# EAGLE library part DUE_HALF_SHIELD_A7-ANALOG (library Felicia_force_logger)
Arduino Due shield Matches Uno R3 footprint, but adds Due SPI 2x3 header, debug wire 4-pin header, and adds Analog pins A6 and A7. **NOTE**The 5V pin on the Due SPI 2x3 header outputs 5V, rather than the 3V3 you might expect.
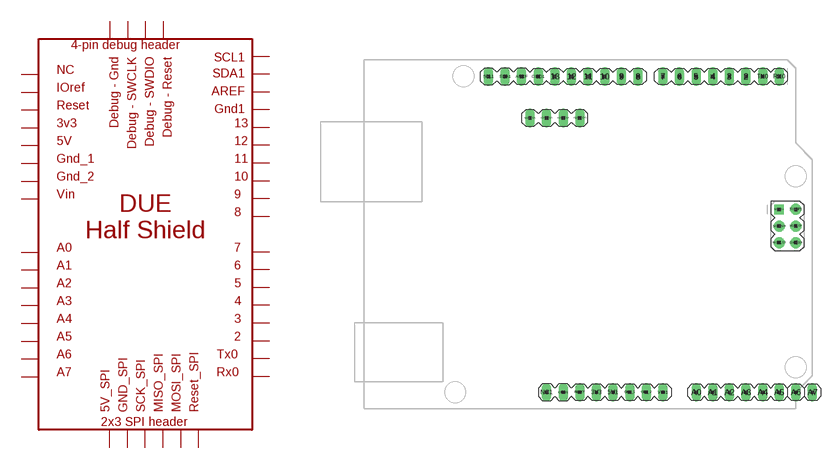
[diagram p11: symbol with the pads of DUE_HALF_SHIELD_A7-ANALOG; footprint DUE_HALF_SHIELD_A7-ANALOG]

Designator prefix -

## DUE_HALF_SHIELD_A7-ANALOG  [DUE_HALF_SHIELD_A7-ANALOG]
2  2
3  3
3V3  3V3
4  4
5  5
5V1  5V
5V_SPI  5V_SPI
6  6
7  7
8  8
9  9
10  10
11  11
12  12
13  13
A0  A0
A1  A1
A2  A2
A3  A3
A4  A4
A5  A5
A6  A6
A7  A7
AREF  AREF
GND1  GND1
GND_1  GND_1
GND_2  GND_2
GND_DEBUG  GND_DEBUG
GND_SPI  GND_SPI
IOREF1  IOREF
MISO_SPI  MISO_SPI
MOSI_SPI  MOSI_SPI
NC1  NC
RESET  RESET
RESET_DEBUG  RESET_DEBUG
RESET_SPI  RESET_SPI
RX0  RX0
SCK_SPI  SCK_SPI
SCL1  SCL1
SDA1  SDA1
SWCLK_DEBUG  SWCLK_DEBUG
SWDIO_DEBUG  SWDIO_DEBUG
TX0  TX0
VIN1  VIN

## Footprint DUE_HALF_SHIELD_A7-ANALOG (pad centres in mm)
Arduino Due shield Matches Uno R3 footprint, but adds Due SPI 2x3 header, debug wire 4-pin header, and adds Analog pins A6 and A7. **NOTE**The 5V pin on the Due SPI 2x3 header outputs 5V, rather than the 3V3 you might expect.
drill 0.9 pad 1.422 long: 2 58.42,50.8; 3 55.88,50.8; 3V3 35.56,2.54; 4 53.34,50.8; 5 50.8,50.8; 5V1 38.1,2.54; 6 48.26,50.8; 7 45.72,50.8; 8 41.91,50.8; 9 39.37,50.8; 10 36.83,50.8; 11 34.29,50.8; 12 31.75,50.8; 13 29.21,50.8; A0 50.8,2.54; A1 53.34,2.54; A2 55.88,2.54; A3 58.42,2.54; A4 60.96,2.54; A5 63.5,2.54; A6 66.04,2.54; A7 68.58,2.54; AREF 24.13,50.8; GND1 26.67,50.8; GND_1 40.64,2.54; GND_2 43.18,2.54; GND_DEBUG 33.02,44.45; IOREF1 30.48,2.54; NC1 27.94,2.54; RESET 33.02,2.54; RESET_DEBUG 25.4,44.45; RX0 63.5,50.8; SCL1 19.05,50.8; SDA1 21.59,50.8; SWCLK_DEBUG 30.48,44.45; SWDIO_DEBUG 27.94,44.45; TX0 60.96,50.8; VIN1 45.72,2.54
drill 0.9 pad 1.676: 5V_SPI 66.04,30.48; GND_SPI 66.04,25.4; MOSI_SPI 66.04,27.94; RESET_SPI 63.5,25.4; SCK_SPI 63.5,27.94
drill 0.9 pad 1.422 square: MISO_SPI 63.5,30.48